# Altium footprint library 0805.PcbLib: 1 footprints
Each footprint in its own frame and in the unit in brackets; x right, y up, seen from the top. Pads: shape width x height; smd on the part's side, far side on the other; paste and mask are expansions set on the pad; w line width, h text height; cw(c..) or ccw(c..) is an arc to the next point about the centre after c.
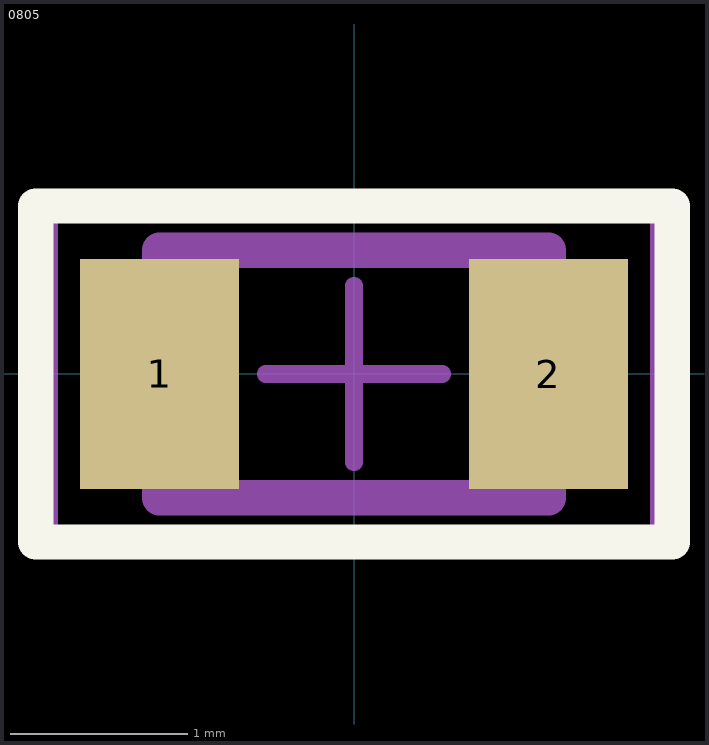
[diagram p0: the footprint, top view; thin cyan lines are the x and y axes]

## 0805 [mm] "Chip Resistor, 2-Leads, Body 2,05x1,25mm, IPC Medium Density"
height 0.5
pads (2):
  rect 0.9x1.3 smd: 1(-1.1,0) 2(1.1,0)
Top Overlay:
  lines w0.2: -1.8,-0.95 1.8,-0.95 1.8,0.95 -1.8,0.95 -1.8,-0.95
Mechanical 7:
  lines w0.2: -1.1,-0.7 -1.1,0.7 1.1,0.7 1.1,-0.7 -1.1,-0.7
Mechanical 15:
  lines w0.05: -1.7,-0.95 -1.7,0.95 1.7,0.95 1.7,-0.95 -1.7,-0.95
  lines w0.1: -0.5,0 0.5,0 ; 0,-0.5 0,0.5
3D body "cap_0805.step": height 1.27, standoff 0, extent -1,-0.65 1,0.65